# EAGLE library part 1X8HEADER (library headers v6-2)
Standard1x8way male/female header. 2.54mm pitch. Through-hole.
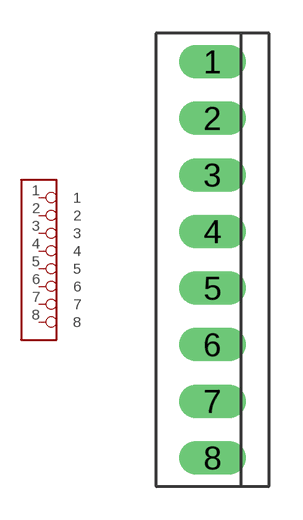
[diagram p0: symbol with the pads of 1X8HEADER; footprint 1X8HEADER]

Designator prefix -

## 1X8HEADER  [1X8HEADER]
1  1
2  2
3  3
4  4
5  5
6  6
7  7
8  8

## Footprint 1X8HEADER (pad centres in mm)
drill 1 long: 1 0,6.35; 2 0,3.81; 3 0,1.27; 4 0,-1.27; 5 0,-3.81; 6 0,-6.35; 7 0,-8.89; 8 0,-11.43